# EAGLE library part ATTINY402-SSNR (library ATTINY402-SSNR)
MCU 8-bit AVR RISC 4KB Flash 3.3V/5V 8-Pin SOIC W T/R Source: Datasheet <https://www.microchip.com/>
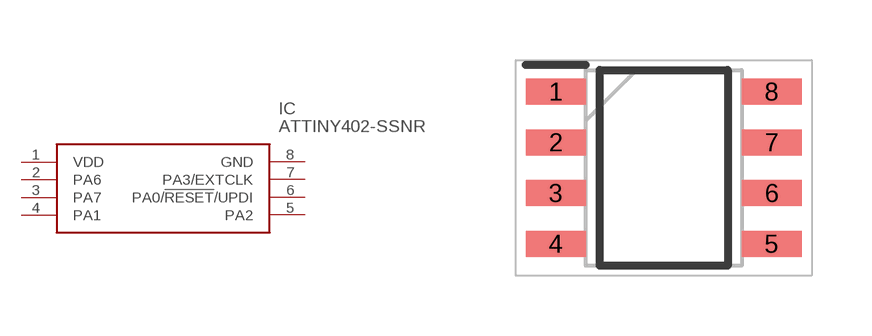
[diagram p0: symbol with the pads of SOIC127P600X175-8N; footprint SOIC127P600X175-8N]

Designator prefix IC

## ATTINY402-SSNR (Arrow_Part_Number: ATTINY402-SSNR; Arrow_Price-Stock: https://www.arrow.com/en/products/attiny402-ssnr/microchip-technology?region=nac; Description: MCU 8-bit AVR RISC 4KB Flash 3.3V/5V 8-Pin SOIC W T/R; Height: 1.75mm; Manufacturer_Name: Microchip; Manufacturer_Part_Number: ATTINY402-SSNR; Mouser_Part_Number: 579-ATTINY402-SSNR; Mouser_Price-Stock: https://www.mouser.co.uk/ProductDetail/Microchip-Technology/ATTINY402-SSNR?qs=y6ZabgHbY%252ByACmf8rx9w5A%3D%3D)  [SOIC127P600X175-8N]
1  VDD
2  PA6
3  PA7
4  PA1
5  PA2
6  PA0/!RESET!/UPDI
7  PA3/EXTCLK
8  GND

## Footprint SOIC127P600X175-8N (pad centres in mm)
(OA) – Narrow, 3.90 mm Body [SOIC]
smd 1.5 x 0.65: 1 -2.7,1.905; 2 -2.7,0.635; 3 -2.7,-0.635; 4 -2.7,-1.905; 5 2.7,-1.905; 6 2.7,-0.635; 7 2.7,0.635; 8 2.7,1.905